# EAGLE library part MAX17577ATC+ (library MAX17577ATC+)
1A High-Efficiency, Synchronous, 4.5V to 60V, Inverting Output DC-DC Converter, 12 TDFN 3mm x 3mm Source: Datasheet <https://datasheets.maximintegrated.com/en/ds/MAX17577-MAX17578.pdf>
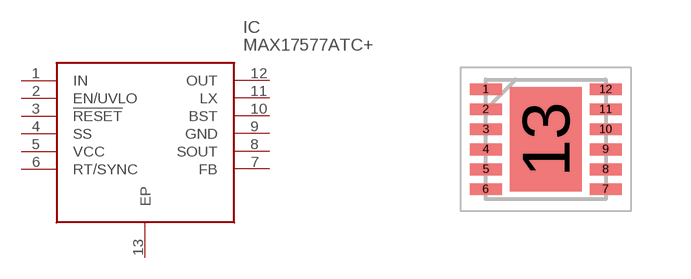
[diagram p0: symbol with the pads of SON50P300X300X80-13N; footprint SON50P300X300X80-13N]

Designator prefix IC

## MAX17577ATC+ (Arrow_Part_Number: MAX17577ATC+; Arrow_Price-Stock: https://www.arrow.com/en/products/max17577atc/analog-devices?utm_currency=USD&region=nac; Description: 1A High-Efficiency, Synchronous, 4.5V to 60V, Inverting Output DC-DC Converter, 12 TDFN 3mm x 3mm; Height: 0.8mm; Manufacturer_Name: Analog Devices; Manufacturer_Part_Number: MAX17577ATC+; Mouser_Part_Number: 700-MAX17577ATC+; Mouser_Price-Stock: https://www.mouser.co.uk/ProductDetail/Analog-Devices-Maxim-Integrated/MAX17577ATC%2b?qs=eP2BKZSCXI6GRnD3M2riQA%3D%3D)  [SON50P300X300X80-13N]
1  IN
2  EN/UVLO
3  !RESET
4  SS
5  VCC
6  RT/SYNC
7  FB
8  SOUT
9  GND
10  BST
11  LX
12  OUT
13  EP

## Footprint SON50P300X300X80-13N (pad centres in mm)
TD1233+1C
smd 0.8 x 0.3: 1 -1.5,1.25; 2 -1.5,0.75; 3 -1.5,0.25; 4 -1.5,-0.25; 5 -1.5,-0.75; 6 -1.5,-1.25; 7 1.5,-1.25; 8 1.5,-0.75; 9 1.5,-0.25; 10 1.5,0.25; 11 1.5,0.75; 12 1.5,1.25
smd 1.8 x 2.6: 13 0,0